# EAGLE library part MCP33063AP (library ESP-RGB)
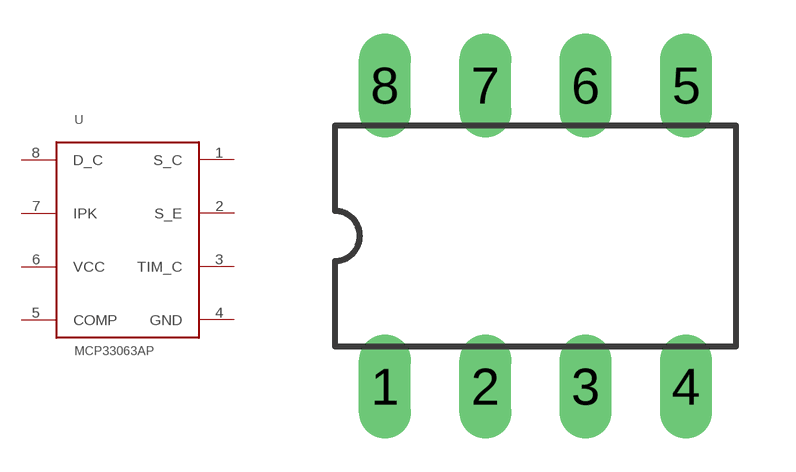
[diagram p2: symbol with the pads of DIL08; footprint DIL08]

Designator prefix -

## MCP33063AP  [DIL08]
1  S_C
2  S_E
3  TIM_C
4  GND
5  COMP
6  VCC
7  IPK
8  D_C

## Footprint DIL08 (pad centres in mm)
Dual In Line
drill 0.813 long: 1 -3.81,-3.81; 2 -1.27,-3.81; 3 1.27,-3.81; 4 3.81,-3.81; 5 3.81,3.81; 6 1.27,3.81; 7 -1.27,3.81; 8 -3.81,3.81